# EAGLE library part MAX17048G+ (library synapseWearV1-4)
Micropower 1-Cell/2-Cell Li+ ModelGauge ICs
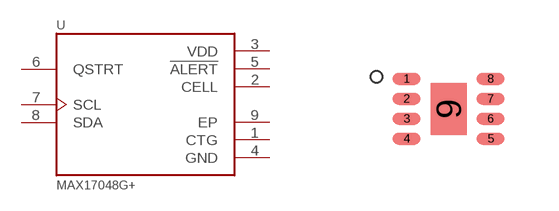
[diagram p8: symbol with the pads of SON50P200X200X80-9N; footprint SON50P200X200X80-9N]

Designator prefix U

## MAX17048G+ (Availability: Bad; Description: Fuel Gauge Li-Ion 8-Pin Tdfn Ep; MF: Maxim Integrated; MP: MAX17048G+; Package: TDFN-8 Maxim Integrated; Price: None)  [SON50P200X200X80-9N]
1  CTG
2  CELL
3  VDD
4  GND  pwr
5  !ALERT  out
6  QSTRT  in
7  SCL  in
8  SDA
9  EP

## Footprint SON50P200X200X80-9N (pad centres in mm)
smd 0.7 x 0.3: 1 -1.05,0.75; 2 -1.05,0.25; 3 -1.05,-0.25; 4 -1.05,-0.75; 5 1.05,-0.75; 6 1.05,-0.25; 7 1.05,0.25; 8 1.05,0.75
smd 0.9 x 1.3: 9 0,0